# EAGLE library part L6234PD (library IC_Power-Management)
Three-phase motor driver Datasheet <https://www.st.com/resource/en/datasheet/l6234.pdf>
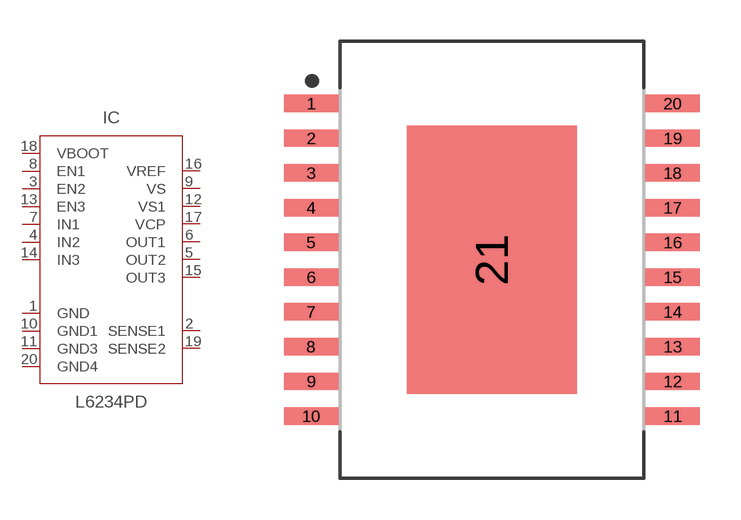
[diagram p5: symbol with the pads of SOIC127P1420X360-21T620X980N; footprint SOIC127P1420X360-21T620X980N]

Designator prefix IC

## L6234PDPOWER_SO20 (CATEGORY: IC_Power-Management; MANUFACTURER: ST Microelectronics; MPN: L6234PD; PART_STATUS: Active; ROHS_COMPLIANT: RoHS3 Compliant; SUB-CATEGORY: Driver; THERMALLOSS: 2.3W; VALUE: L6234PD)  [SOIC127P1420X360-21T620X980N]
1  GND  pwr
2  SENSE1  out
3  EN2  in
4  IN2  in
5  OUT2  out
6  OUT1  out
7  IN1  in
8  EN1  in
9  VS  pwr
10  GND1  pwr
11  GND3  pwr
12  VS1  pwr
13  EN3  in
14  IN3  in
15  OUT3  out
16  VREF  pwr
17  VCP  out
18  VBOOT  in
19  SENSE2  out
20  GND4  pwr

## Footprint SOIC127P1420X360-21T620X980N (pad centres in mm)
20-SOIC, 1.27 mm pitch, 14.20 mm span, 15.90 X 11.00 X 3.60 mm body, 9.80 X 6.20 mm thermal pad 20-pin SOIC package with 1.27 mm pitch, 14.20 mm span with body size 15.90 X 11.00 X 3.60 mm and thermal pad size 9.80 X 6.20 mm
smd 1.993 x 0.631: 1 -6.609,5.715; 2 -6.609,4.445; 3 -6.609,3.175; 4 -6.609,1.905; 5 -6.609,0.635; 6 -6.609,-0.635; 7 -6.609,-1.905; 8 -6.609,-3.175; 9 -6.609,-4.445; 10 -6.609,-5.715; 11 6.609,-5.715; 12 6.609,-4.445; 13 6.609,-3.175; 14 6.609,-1.905; 15 6.609,-0.635; 16 6.609,0.635; 17 6.609,1.905; 18 6.609,3.175; 19 6.609,4.445; 20 6.609,5.715
smd 6.2 x 9.8: 21 0,0